# Altium integrated library NSC ADC.IntLib: 208 symbols (part 5 of 7)
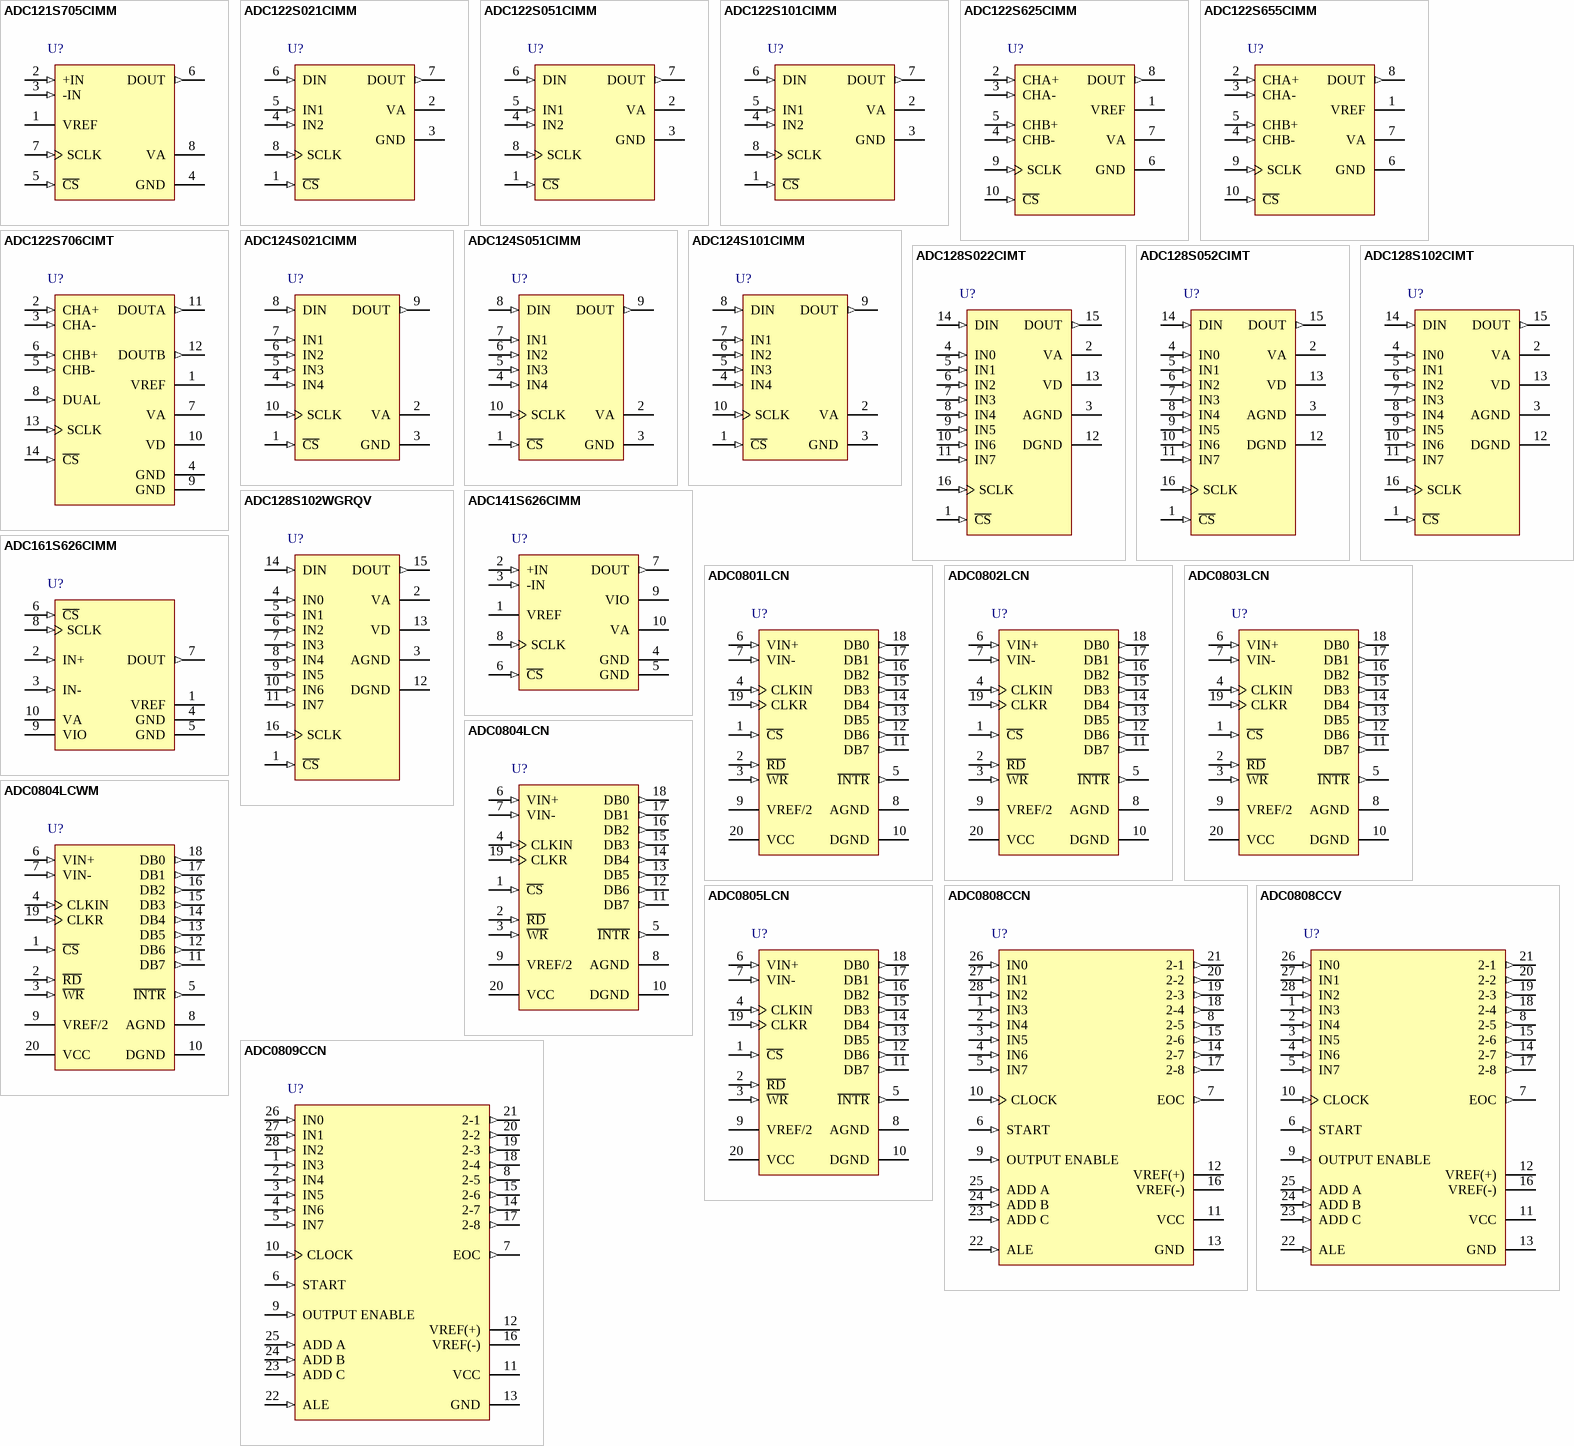
[diagram p21: symbols ADC121S705CIMM to ADC0809CCN]

## ADC122S706CIMT
designator U?
Dual 12-Bit, 500 kSPS to 1 MSPS, Simultaneous Sampling A/D Converter; PartNumber: ADC122S706CIMT; Manufacturer: National Semiconductor; CompType: ADC IC; PackageTopMarking: NSUZXYTT*2S706*CIMT; PowerWise: N; Published: 4-Dec-2008; DatasheetVersion: Nov-2007; PackageVersion: revD, Jun-2003; PackageReference: MTC14; Publisher: Altium Limited; PackageDescription: Molded TSSOP, JEDEC, 5 x 4.4 x 0.9mm Body, 14 Lead, 0.65mm Pitch; RoHS: Y; PinCount: 14; DigiKeyPartNumber: ADC122S706CIMT-ND; Code_JEDEC: MO-153-AB-1; ComponentLink1Description: ADC122S706 Datasheet; ComponentLink1URL: http://www.national.com/ds/AD/ADC122S706.pdf; ComponentLink2Description: ADC122S706 Web Page; ComponentLink2URL: http://www.national.com/pf/AD/ADC122S706.html; ComponentLink3Description: MTC14 Package Page; ComponentLink3URL: http://www.national.com/packaging/folders/mtc14.html
footprint MTC14_N (TSOP, 14-Leads, Body 5x4.4mm, Pitch 0.65mm, IPC Medium Density)
footprint MTC14_L (TSOP, 14-Leads, Body 5x4.4mm, Pitch 0.65mm, IPC High Density)
footprint MTC14_M (TSOP, 14-Leads, Body 5x4.4mm, Pitch 0.65mm, IPC Low Density)
pins: 1 VREF (power), 2 CHA+ (in), 3 CHA- (in), 4 GND (power), 5 CHB- (in), 6 CHB+ (in), 7 VA (power), 8 DUAL (in), 9 GND (power), 10 VD (power), 11 DOUTA (out), 12 DOUTB (out), 13 SCLK (in), 14 ~{CS} (in)

## ADC124S021CIMM
designator U?
4 Channel, 200 kSPS, 12-Bit A/D Converter; PartNumber: ADC124S021CIMM; Manufacturer: National Semiconductor; CompType: ADC IC; PackageTopMarking: ZXTT*X21C; PowerWise: Y; Published: 4-Dec-2008; DatasheetVersion: Mar-2005; PackageVersion: revB, Jul-2003; PackageReference: MUB10A; Publisher: Altium Limited; PackageDescription: Mini-SO, Molded, .118 x .118 x .034in Body, 10 Lead, .0197in Pitch; RoHS: O; PinCount: 10; DigiKeyPartNumber: ADC124S021CIMMCT-ND; Code_JEDEC: MO-187-BA; ComponentLink1Description: ADC124S021 Datasheet; ComponentLink1URL: http://www.national.com/ds/AD/ADC124S021.pdf; ComponentLink2Description: ADC124S021 Web Page; ComponentLink2URL: http://www.national.com/pf/AD/ADC124S021.html; ComponentLink3Description: MUB10A Package Page; ComponentLink3URL: http://www.national.com/packaging/folders/mub10a.html
footprint MUB10A_N (TSSOP, 10-Leads, Body 3x3mm, Pitch 0.5mm, IPC Medium Density)
footprint MUB10A_L (TSSOP, 10-Leads, Body 3x3mm, Pitch 0.5mm, IPC High Density)
footprint MUB10A_M (TSSOP, 10-Leads, Body 3x3mm, Pitch 0.5mm, IPC Low Density)
pins: 1 ~{CS} (in), 2 VA (power), 3 GND (power), 4 IN4 (in), 5 IN3 (in), 6 IN2 (in), 7 IN1 (in), 8 DIN (in), 9 DOUT (out), 10 SCLK (in)

## ADC124S051CIMM
designator U?
4 Channel, 500 kSPS, 12-Bit A/D Converter; PartNumber: ADC124S051CIMM; Manufacturer: National Semiconductor; CompType: ADC IC; PackageTopMarking: ZXTT*X12C; PowerWise: Y; Published: 4-Dec-2008; DatasheetVersion: Mar-2005; PackageVersion: revB, Jul-2003; PackageReference: MUB10A; Publisher: Altium Limited; PackageDescription: Mini-SO, Molded, .118 x .118 x .034in Body, 10 Lead, .0197in Pitch; RoHS: Y; PinCount: 10; DigiKeyPartNumber: ADC124S051CIMMCT-ND; Code_JEDEC: MO-187-BA; ComponentLink1Description: ADC124S051 Datasheet; ComponentLink1URL: http://www.national.com/ds/AD/ADC124S051.pdf; ComponentLink2Description: ADC124S051 Web Page; ComponentLink2URL: http://www.national.com/pf/AD/ADC124S051.html; ComponentLink3Description: MUB10A Package Page; ComponentLink3URL: http://www.national.com/packaging/folders/mub10a.html
footprint MUB10A_N (TSSOP, 10-Leads, Body 3x3mm, Pitch 0.5mm, IPC Medium Density)
footprint MUB10A_L (TSSOP, 10-Leads, Body 3x3mm, Pitch 0.5mm, IPC High Density)
footprint MUB10A_M (TSSOP, 10-Leads, Body 3x3mm, Pitch 0.5mm, IPC Low Density)
pins: 1 ~{CS} (in), 2 VA (power), 3 GND (power), 4 IN4 (in), 5 IN3 (in), 6 IN2 (in), 7 IN1 (in), 8 DIN (in), 9 DOUT (out), 10 SCLK (in)

## ADC124S101CIMM
designator U?
4 Channel, 1 MSPS, 12-Bit A/D Converter; PartNumber: ADC124S101CIMM; Manufacturer: National Semiconductor; CompType: ADC IC; PackageTopMarking: ZXTT*X27C; PowerWise: Y; Published: 4-Dec-2008; DatasheetVersion: Mar-2005; PackageVersion: revB, Jul-2003; PackageReference: MUB10A; Publisher: Altium Limited; PackageDescription: Mini-SO, Molded, .118 x .118 x .034in Body, 10 Lead, .0197in Pitch; RoHS: O; PinCount: 10; DigiKeyPartNumber: ADC124S101CIMMCT-ND; Code_JEDEC: MO-187-BA; ComponentLink1Description: ADC124S101 Datasheet; ComponentLink1URL: http://www.national.com/ds/AD/ADC124S101.pdf; ComponentLink2Description: ADC124S101 Web Page; ComponentLink2URL: http://www.national.com/pf/AD/ADC124S101.html; ComponentLink3Description: MUB10A Package Page; ComponentLink3URL: http://www.national.com/packaging/folders/mub10a.html
footprint MUB10A_N (TSSOP, 10-Leads, Body 3x3mm, Pitch 0.5mm, IPC Medium Density)
footprint MUB10A_L (TSSOP, 10-Leads, Body 3x3mm, Pitch 0.5mm, IPC High Density)
footprint MUB10A_M (TSSOP, 10-Leads, Body 3x3mm, Pitch 0.5mm, IPC Low Density)
pins: 1 ~{CS} (in), 2 VA (power), 3 GND (power), 4 IN4 (in), 5 IN3 (in), 6 IN2 (in), 7 IN1 (in), 8 DIN (in), 9 DOUT (out), 10 SCLK (in)

## ADC128S022CIMT
designator U?
8-Channel, 50 kSPS to 200 kSPS, 12-Bit A/D Converter; PartNumber: ADC128S022CIMT; Manufacturer: National Semiconductor; CompType: ADC IC; PackageTopMarking: NSUZXYTT*128S022*CIMT; PowerWise: Y; Published: 4-Dec-2008; DatasheetVersion: Aug-2005; PackageVersion: revD, Jun-2003; PackageReference: MTC16; Publisher: Altium Limited; PackageDescription: Molded TSSOP, Jedec, 5 x 4.4 x 0.9mm Body, 16 Lead, 0.65mm Pitch; RoHS: Y; PinCount: 16; DigiKeyPartNumber: ADC128S022CIMT-ND; Code_JEDEC: MO-153-AB; ComponentLink1Description: ADC128S022 Datasheet; ComponentLink1URL: http://www.national.com/ds/AD/ADC128S022.pdf; ComponentLink2Description: ADC128S022 Web Page; ComponentLink2URL: http://www.national.com/pf/AD/ADC128S022.html; ComponentLink3Description: MTC16 Package Page; ComponentLink3URL: http://www.national.com/packaging/folders/mtc16.html
footprint MTC16_N (TSOP, 16-Leads, Body 5x4.4mm, Pitch 0.65mm, IPC Medium Density)
footprint MTC16_L (TSOP, 16-Leads, Body 5x4.4mm, Pitch 0.65mm, IPC High Density)
footprint MTC16_M (TSOP, 16-Leads, Body 5x4.4mm, Pitch 0.65mm, IPC Low Density)
pins: 1 ~{CS} (in), 2 VA (power), 3 AGND (power), 4 IN0 (in), 5 IN1 (in), 6 IN2 (in), 7 IN3 (in), 8 IN4 (in), 9 IN5 (in), 10 IN6 (in), 11 IN7 (in), 12 DGND (power), 13 VD (power), 14 DIN (in), 15 DOUT (out), 16 SCLK (in)

## ADC128S052CIMT
designator U?
8-Channel, 200 kSPS to 500 kSPS, 12-Bit A/D Converter; PartNumber: ADC128S052CIMT; Manufacturer: National Semiconductor; CompType: ADC IC; PackageTopMarking: NSUZXYTT*128S052*CIMT; PowerWise: Y; Published: 4-Dec-2008; DatasheetVersion: Aug-2005; PackageVersion: revD, Jun-2003; PackageReference: MTC16; Publisher: Altium Limited; PackageDescription: Molded TSSOP, Jedec, 5 x 4.4 x 0.9mm Body, 16 Lead, 0.65mm Pitch; RoHS: Y; PinCount: 16; DigiKeyPartNumber: ADC128S052CIMT-ND; Code_JEDEC: MO-153-AB; ComponentLink1Description: ADC128S052 Datasheet; ComponentLink1URL: http://www.national.com/ds/AD/ADC128S052.pdf; ComponentLink2Description: ADC128S052 Web Page; ComponentLink2URL: http://www.national.com/pf/AD/ADC128S052.html; ComponentLink3Description: MTC16 Package Page; ComponentLink3URL: http://www.national.com/packaging/folders/mtc16.html
footprint MTC16_N (TSOP, 16-Leads, Body 5x4.4mm, Pitch 0.65mm, IPC Medium Density)
footprint MTC16_L (TSOP, 16-Leads, Body 5x4.4mm, Pitch 0.65mm, IPC High Density)
footprint MTC16_M (TSOP, 16-Leads, Body 5x4.4mm, Pitch 0.65mm, IPC Low Density)
pins: 1 ~{CS} (in), 2 VA (power), 3 AGND (power), 4 IN0 (in), 5 IN1 (in), 6 IN2 (in), 7 IN3 (in), 8 IN4 (in), 9 IN5 (in), 10 IN6 (in), 11 IN7 (in), 12 DGND (power), 13 VD (power), 14 DIN (in), 15 DOUT (out), 16 SCLK (in)

## ADC128S102CIMT
designator U?
8-Channel, 500 kSPS to 1 MSPS, 12-Bit A/D Converter; PartNumber: ADC128S102CIMT; Manufacturer: National Semiconductor; CompType: ADC IC; PackageTopMarking: NSUZXYTT*128S102*CIMT; PowerWise: Y; Published: 4-Dec-2008; DatasheetVersion: Aug-2005; PackageVersion: revD, Jun-2003; PackageReference: MTC16; Publisher: Altium Limited; PackageDescription: Molded TSSOP, Jedec, 5 x 4.4 x 0.9mm Body, 16 Lead, 0.65mm Pitch; RoHS: O; PinCount: 16; DigiKeyPartNumber: ADC128S102CIMT-ND; Code_JEDEC: MO-153-AB; ComponentLink1Description: ADC128S102 Datasheet; ComponentLink1URL: http://www.national.com/ds/AD/ADC128S102.pdf; ComponentLink2Description: ADC128S102 Web Page; ComponentLink2URL: http://www.national.com/pf/AD/ADC128S102.html; ComponentLink3Description: MTC16 Package Page; ComponentLink3URL: http://www.national.com/packaging/folders/mtc16.html
footprint MTC16_N (TSOP, 16-Leads, Body 5x4.4mm, Pitch 0.65mm, IPC Medium Density)
footprint MTC16_L (TSOP, 16-Leads, Body 5x4.4mm, Pitch 0.65mm, IPC High Density)
footprint MTC16_M (TSOP, 16-Leads, Body 5x4.4mm, Pitch 0.65mm, IPC Low Density)
pins: 1 ~{CS} (in), 2 VA (power), 3 AGND (power), 4 IN0 (in), 5 IN1 (in), 6 IN2 (in), 7 IN3 (in), 8 IN4 (in), 9 IN5 (in), 10 IN6 (in), 11 IN7 (in), 12 DGND (power), 13 VD (power), 14 DIN (in), 15 DOUT (out), 16 SCLK (in)

## ADC128S102WGRQV
designator U?
8-Channel, 500 ksps to 1 Msps, 12-Bit A/D Converter; PartNumber: ADC128S102WGRQV; Manufacturer: National Semiconductor; CompType: ADC IC; PackageTopMarking: NSZSSXXYYA*ADC128S102*WGRQV Q*5962R07227*01VZA; PowerWise: Y; MilaeroCode: EXX; Published: 9-Oct-2009; DatasheetVersion: Jul-2009; PackageVersion: revE, Jul-2007; PackageReference: WG16A; Publisher: Altium Limited; PackageDescription: Cerpack, .390 x .250 x .070in, 16 Lead, .050in Pitch, Gull Wing; RoHS: N; PinCount: 16; ComponentLink1Description: ADC128S102 Datasheet; ComponentLink1URL: http://www.national.com/ds/AD/ADC128S102QML.pdf; ComponentLink2Description: ADC128S102QML Web Page; ComponentLink2URL: http://www.national.com/pf/DC/ADC128S102QML.html; ComponentLink3Description: WG16A Package Page; ComponentLink3URL: http://www.national.com/packaging/folders/wg16a.html
footprint WG16A_N (CERPACK, 16-Leads, Body 9.9x6.5mm, Pitch 1.27mm, IPC Medium Density)
footprint WG16A_L (CERPACK, 16-Leads, Body 9.9x6.5mm, Pitch 1.27mm, IPC High Density)
footprint WG16A_M (CERPACK, 16-Leads, Body 9.9x6.5mm, Pitch 1.27mm, IPC Low Density)
pins: 1 ~{CS} (in), 2 VA (power), 3 AGND (power), 4 IN0 (in), 5 IN1 (in), 6 IN2 (in), 7 IN3 (in), 8 IN4 (in), 9 IN5 (in), 10 IN6 (in), 11 IN7 (in), 12 DGND (power), 13 VD (power), 14 DIN (in), 15 DOUT (out), 16 SCLK (in)

## ADC141S626CIMM
designator U?
14-Bit, 50 kSPS to 250 kSPS, Differential Input, Micro Power A/D Converter; PartNumber: ADC141S626CIMM; Manufacturer: National Semiconductor; CompType: ADC IC; PackageTopMarking: ZXTT*X94C; PowerWise: Y; Published: 4-Dec-2008; DatasheetVersion: Dec-2007; PackageVersion: revB, Jul-2003; PackageReference: MUB10A; Publisher: Altium Limited; PackageDescription: Mini-SO, Molded, .118 x .118 x .034in Body, 10 Lead, .0197in Pitch; RoHS: Y; PinCount: 10; DigiKeyPartNumber: ADC141S626CIMMCT-ND; Code_JEDEC: MO-187-BA; ComponentLink1Description: ADC141S626 Datasheet; ComponentLink1URL: http://www.national.com/ds/AD/ADC141S626.pdf; ComponentLink2Description: ADC141S626 Web Page; ComponentLink2URL: http://www.national.com/pf/AD/ADC141S626.html; ComponentLink3Description: MUB10A Package Page; ComponentLink3URL: http://www.national.com/packaging/folders/mub10a.html
footprint MUB10A_N (TSSOP, 10-Leads, Body 3x3mm, Pitch 0.5mm, IPC Medium Density)
footprint MUB10A_L (TSSOP, 10-Leads, Body 3x3mm, Pitch 0.5mm, IPC High Density)
footprint MUB10A_M (TSSOP, 10-Leads, Body 3x3mm, Pitch 0.5mm, IPC Low Density)
pins: 1 VREF (power), 2 +IN (in), 3 -IN (in), 4 GND (power), 5 GND (power), 6 ~{CS} (in), 7 DOUT (out), 8 SCLK (in), 9 VIO (power), 10 VA (power)

## ADC161S626CIMM
designator U?
16-Bit, 50 to 250 kSPS, Differential Input, MicroPower ADC; PartNumber: ADC161S626CIMM; Manufacturer: National Semiconductor; CompType: ADC IC; PackageTopMarking: ZXTT*X98C; PowerWise: Y; Published: 4-Dec-2008; DatasheetVersion: Sep-2008; PackageVersion: revB, Jul-2003; PackageReference: MUB10A; Publisher: Altium Limited; PackageDescription: Mini-SO, Molded, .118 x .118 x .034in Body, 10 Lead, .0197in Pitch; RoHS: Y; PinCount: 10; DigiKeyPartNumber: ADC161S626CIMMCT-ND; Code_JEDEC: MO-187-BA; ComponentLink1Description: ADC161S626 Datasheet; ComponentLink1URL: http://www.national.com/ds/AD/ADC161S626.pdf; ComponentLink2Description: ADC161S626 Web Page; ComponentLink2URL: http://www.national.com/pf/AD/ADC161S626.html; ComponentLink3Description: MUB10A Package Drawing; ComponentLink3URL: http://www.national.com/packaging/folders/mub10a.html
footprint MUB10A_N (TSSOP, 10-Leads, Body 3x3mm, Pitch 0.5mm, IPC Medium Density)
footprint MUB10A_L (TSSOP, 10-Leads, Body 3x3mm, Pitch 0.5mm, IPC High Density)
footprint MUB10A_M (TSSOP, 10-Leads, Body 3x3mm, Pitch 0.5mm, IPC Low Density)
pins: 1 VREF (power), 2 IN+ (in), 3 IN- (in), 4 GND (power), 5 GND (power), 6 ~{CS} (in), 7 DOUT (out), 8 SCLK (in), 9 VIO, 10 VA

## ADC0801LCN
designator U?
8-Bit uP Compatible A/D Converters; PartNumber: ADC0801LCN; Manufacturer: National Semiconductor; CompType: ADC IC; PackageTopMarking: NSUZXYYTTE#*ADC0801LCN; PowerWise: N; Published: 4-Dec-2008; DatasheetVersion: Sep-1992; PackageVersion: revG, Nov-1984; PackageReference: N20A; Publisher: Altium Limited; PackageDescription: Molded Dip (N) 20 Lead; RoHS: Y; PinCount: 20; DigiKeyPartNumber: ADC0801LCN-ND; Code_JEDEC: MS-001-AD; ComponentLink1Description: ADC0801 Datasheet; ComponentLink1URL: http://www.national.com/ds/AD/ADC0801.pdf; ComponentLink2Description: ADC0801 Web Page; ComponentLink2URL: http://www.national.com/pf/AD/ADC0801.html; ComponentLink3Description: N20A Package Page; ComponentLink3URL: http://www.national.com/packaging/folders/n20a.html
footprint N20A (DIP, 20-Leads, Row Spacing 7.62mm, Pitch 2.54mm, Body 26.07x6.6mm)
pins: 1 ~{CS} (in), 2 ~{RD} (in), 3 ~{WR} (in), 4 CLKIN (in), 5 ~{INTR} (out), 6 VIN+ (in), 7 VIN- (in), 8 AGND (power), 9 VREF/2 (power), 10 DGND (power), 11 DB7 (out), 12 DB6 (out), 13 DB5 (out), 14 DB4 (out), 15 DB3 (out), 16 DB2 (out), 17 DB1 (out), 18 DB0 (out), 19 CLKR (in), 20 VCC (power)

## ADC0802LCN
designator U?
8-Bit uP Compatible A/D Converters; PartNumber: ADC0802LCN; Manufacturer: National Semiconductor; CompType: ADC IC; PackageTopMarking: NSUZXYYTTE#*ADC0802LCN; PowerWise: N; Published: 4-Dec-2008; DatasheetVersion: Sep-1992; PackageVersion: revG, Nov-1984; PackageReference: N20A; Publisher: Altium Limited; PackageDescription: Molded Dip (N) 20 Lead; RoHS: O; PinCount: 20; DigiKeyPartNumber: ADC0802LCN-ND; Code_JEDEC: MS-001-AD; ComponentLink1Description: ADC0802 Datasheet; ComponentLink1URL: http://www.national.com/ds/AD/ADC0802.pdf; ComponentLink2Description: ADC0802 Web Page; ComponentLink2URL: http://www.national.com/pf/AD/ADC0802.html; ComponentLink3Description: N20A Package Page; ComponentLink3URL: http://www.national.com/packaging/folders/n20a.html
footprint N20A (DIP, 20-Leads, Row Spacing 7.62mm, Pitch 2.54mm, Body 26.07x6.6mm)
pins: 1 ~{CS} (in), 2 ~{RD} (in), 3 ~{WR} (in), 4 CLKIN (in), 5 ~{INTR} (out), 6 VIN+ (in), 7 VIN- (in), 8 AGND (power), 9 VREF/2 (power), 10 DGND (power), 11 DB7 (out), 12 DB6 (out), 13 DB5 (out), 14 DB4 (out), 15 DB3 (out), 16 DB2 (out), 17 DB1 (out), 18 DB0 (out), 19 CLKR (in), 20 VCC (power)

## ADC0803LCN
designator U?
8-Bit uP Compatible A/D Converters; PartNumber: ADC0803LCN; Manufacturer: National Semiconductor; CompType: ADC IC; PackageTopMarking: NSUZXYYTTE#*ADC0803LCN; PowerWise: N; Published: 4-Dec-2008; DatasheetVersion: Sep-1992; PackageVersion: revG, Nov-1984; PackageReference: N20A; Publisher: Altium Limited; PackageDescription: Molded Dip (N) 20 Lead; RoHS: O; PinCount: 20; DigiKeyPartNumber: ADC0803LCN-ND; Code_JEDEC: MS-001-AD; ComponentLink1Description: ADC0803 Datasheet; ComponentLink1URL: http://www.national.com/ds/AD/ADC0803.pdf; ComponentLink2Description: ADC0803 Web Page; ComponentLink2URL: http://www.national.com/pf/AD/ADC0803.html; ComponentLink3Description: N20A Package Page; ComponentLink3URL: http://www.national.com/packaging/folders/n20a.html
footprint N20A (DIP, 20-Leads, Row Spacing 7.62mm, Pitch 2.54mm, Body 26.07x6.6mm)
pins: 1 ~{CS} (in), 2 ~{RD} (in), 3 ~{WR} (in), 4 CLKIN (in), 5 ~{INTR} (out), 6 VIN+ (in), 7 VIN- (in), 8 AGND (power), 9 VREF/2 (power), 10 DGND (power), 11 DB7 (out), 12 DB6 (out), 13 DB5 (out), 14 DB4 (out), 15 DB3 (out), 16 DB2 (out), 17 DB1 (out), 18 DB0 (out), 19 CLKR (in), 20 VCC (power)

## ADC0804LCN
designator U?
8-Bit uP Compatible A/D Converters; PartNumber: ADC0804LCN; Manufacturer: National Semiconductor; CompType: ADC IC; PackageTopMarking: NSUZXYYTTE#*ADC0804LCN; PowerWise: N; Published: 4-Dec-2008; DatasheetVersion: Sep-1992; PackageVersion: revG, Nov-1984; PackageReference: N20A; Publisher: Altium Limited; PackageDescription: Molded Dip (N) 20 Lead; RoHS: O; PinCount: 20; DigiKeyPartNumber: ADC0804LCN-ND; Code_JEDEC: MS-001-AD; ComponentLink1Description: ADC0804 Datasheet; ComponentLink1URL: http://www.national.com/ds/AD/ADC0804.pdf; ComponentLink2Description: ADC0804 Web Page; ComponentLink2URL: http://www.national.com/pf/AD/ADC0804.html; ComponentLink3Description: N20A Package Page; ComponentLink3URL: http://www.national.com/packaging/folders/n20a.html
footprint N20A (DIP, 20-Leads, Row Spacing 7.62mm, Pitch 2.54mm, Body 26.07x6.6mm)
pins: 1 ~{CS} (in), 2 ~{RD} (in), 3 ~{WR} (in), 4 CLKIN (in), 5 ~{INTR} (out), 6 VIN+ (in), 7 VIN- (in), 8 AGND (power), 9 VREF/2 (power), 10 DGND (power), 11 DB7 (out), 12 DB6 (out), 13 DB5 (out), 14 DB4 (out), 15 DB3 (out), 16 DB2 (out), 17 DB1 (out), 18 DB0 (out), 19 CLKR (in), 20 VCC (power)

## ADC0804LCWM
designator U?
8-Bit uP Compatible A/D Converters; PartNumber: ADC0804LCWM; Manufacturer: National Semiconductor; CompType: ADC IC; PackageTopMarking: NSUZXYTT*ADC0804*LCWM; PowerWise: N; Published: 4-Dec-2008; DatasheetVersion: Sep-1992; PackageVersion: revG, Jan-1996; PackageReference: M20B; Publisher: Altium Limited; PackageDescription: Molded Package, S0, .300in Wide, 20 Lead; RoHS: Y; PinCount: 20; DigiKeyPartNumber: ADC0804LCWM-ND; Code_JEDEC: MS-013-AC; Code_IPC: SOIC127P1030-20; ComponentLink1Description: ADC0804 Datasheet; ComponentLink1URL: http://www.national.com/ds/AD/ADC0804.pdf; ComponentLink2Description: ADC0804 Web Page; ComponentLink2URL: http://www.national.com/pf/AD/ADC0804.html; ComponentLink3Description: M20B Package Page; ComponentLink3URL: http://www.national.com/packaging/folders/m20b.html
footprint M20B_N (SOIC, 20-Leads, Body 12.8x7.5mm, Pitch 1.27mm, IPC Medium Density)
footprint M20B_L (SOIC, 20-Leads, Body 12.8x7.5mm, Pitch 1.27mm, IPC High Density)
footprint M20B_M (SOIC, 20-Leads, Body 12.8x7.5mm, Pitch 1.27mm, IPC Low Density)
pins: 1 ~{CS} (in), 2 ~{RD} (in), 3 ~{WR} (in), 4 CLKIN (in), 5 ~{INTR} (out), 6 VIN+ (in), 7 VIN- (in), 8 AGND (power), 9 VREF/2 (power), 10 DGND (power), 11 DB7 (out), 12 DB6 (out), 13 DB5 (out), 14 DB4 (out), 15 DB3 (out), 16 DB2 (out), 17 DB1 (out), 18 DB0 (out), 19 CLKR (in), 20 VCC (power)

## ADC0805LCN
designator U?
8-Bit uP Compatible A/D Converters; PartNumber: ADC0805LCN; Manufacturer: National Semiconductor; CompType: ADC IC; PackageTopMarking: NSUZXYYTTE#*ADC0805LCN; Published: 4-Dec-2008; DatasheetVersion: Sep-1992; PackageVersion: revG, Nov-1984; PackageReference: N20A; Publisher: Altium Limited; PackageDescription: Molded Dip (N) 20 Lead; RoHS: Y; PinCount: 20; DigiKeyPartNumber: ADC0805LCN-ND; Code_JEDEC: MS-001-AD; ComponentLink1Description: ADC0805 Datasheet; ComponentLink1URL: http://www.national.com/ds/AD/ADC0805.pdf; ComponentLink2Description: ADC0805 Web Page; ComponentLink2URL: http://www.national.com/pf/AD/ADC0805.html; ComponentLink3Description: N20A Package Page; ComponentLink3URL: http://www.national.com/packaging/folders/n20a.html
footprint N20A (DIP, 20-Leads, Row Spacing 7.62mm, Pitch 2.54mm, Body 26.07x6.6mm)
pins: 1 ~{CS} (in), 2 ~{RD} (in), 3 ~{WR} (in), 4 CLKIN (in), 5 ~{INTR} (out), 6 VIN+ (in), 7 VIN- (in), 8 AGND (power), 9 VREF/2 (power), 10 DGND (power), 11 DB7 (out), 12 DB6 (out), 13 DB5 (out), 14 DB4 (out), 15 DB3 (out), 16 DB2 (out), 17 DB1 (out), 18 DB0 (out), 19 CLKR (in), 20 VCC (power)

## ADC0808CCN
designator U?
8-bit Microprocessor Compatible A/D Converters With 8-Channel Multiplexer; PartNumber: ADC0808CCN; Manufacturer: National Semiconductor; CompType: ADC IC; PackageTopMarking: NSUZXYYTTE#*ADC0808CCN; PowerWise: N; Published: 4-Dec-2008; DatasheetVersion: Sep-1992; PackageVersion: revB, Aug-1993; PackageReference: NA28E; Publisher: Altium Limited; PackageDescription: Molded Dip, 28 Lead, .600 Centers, Substractor Package; RoHS: O; PinCount: 28; DigiKeyPartNumber: ADC0808CCN-ND; ComponentLink1Description: ADC0808 Datasheet; ComponentLink1URL: http://www.national.com/ds/AD/ADC0808.pdf; ComponentLink2Description: ADC0808 Web Page; ComponentLink2URL: http://www.national.com/pf/AD/ADC0808.html; ComponentLink3Description: NA28E Package Page; ComponentLink3URL: http://www.national.com/packaging/folders/na28e.html
footprint NA28E (DIP, 28-Leads, Row Spacing 15.24mm, Pitch 2.54mm, Body 36.83x13.72mm)
pins: 1 IN3 (in), 2 IN4 (in), 3 IN5 (in), 4 IN6 (in), 5 IN7 (in), 6 START (in), 7 EOC (out), 8 2-5 (out), 9 OUTPUT ENABLE (in), 10 CLOCK (in), 11 VCC (power), 12 VREF(+) (power), 13 GND (power), 14 2-7 (out), 15 2-6 (out), 16 VREF(-) (power), 17 2-8 (out), 18 2-4 (out), 19 2-3 (out), 20 2-2 (out), 21 2-1 (out), 22 ALE (in), 23 ADD C (in), 24 ADD B (in), 25 ADD A (in), 26 IN0 (in), 27 IN1 (in), 28 IN2 (in)

## ADC0808CCV
designator U?
8-bit Microprocessor Compatible A/D Converters With 8-Channel Multiplexer; PartNumber: ADC0808CCV; Manufacturer: National Semiconductor; CompType: ADC IC; PackageTopMarking: NSUZXYYTT*ADC0808*CCV; PowerWise: N; Published: 4-Dec-2008; DatasheetVersion: Sep-1992; PackageVersion: revK, Dec-1993; PackageReference: V28A; Publisher: Altium Limited; PackageDescription: Plastic Chip Carrier, Sq., .050in Pitch, 28 Lead; RoHS: O; PinCount: 28; DigiKeyPartNumber: ADC0808CCV-ND; Code_IPC: PLCC-28; ComponentLink1Description: ADC0808 Datasheet; ComponentLink1URL: http://www.national.com/ds/AD/ADC0808.pdf; ComponentLink2Description: ADC0808 Web Page; ComponentLink2URL: http://www.national.com/pf/AD/ADC0808.html; ComponentLink3Description: V28A Package Page; ComponentLink3URL: http://www.national.com/packaging/folders/v28a.html
footprint V28A_N (Leaded Chip Carrier, 28-Leads, Body 11.5x11.5mm, Pitch 1.27mm, IPC Medium Density)
footprint V28A_L (Leaded Chip Carrier, 28-Leads, Body 11.5x11.5mm, Pitch 1.27mm, IPC High Density)
footprint V28A_M (Leaded Chip Carrier, 28-Leads, Body 11.5x11.5mm, Pitch 1.27mm, IPC Low Density)
pins: 1 IN3 (in), 2 IN4 (in), 3 IN5 (in), 4 IN6 (in), 5 IN7 (in), 6 START (in), 7 EOC (out), 8 2-5 (out), 9 OUTPUT ENABLE (in), 10 CLOCK (in), 11 VCC (power), 12 VREF(+) (power), 13 GND (power), 14 2-7 (out), 15 2-6 (out), 16 VREF(-) (power), 17 2-8 (out), 18 2-4 (out), 19 2-3 (out), 20 2-2 (out), 21 2-1 (out), 22 ALE (in), 23 ADD C (in), 24 ADD B (in), 25 ADD A (in), 26 IN0 (in), 27 IN1 (in), 28 IN2 (in)

## ADC0809CCN
designator U?
8-bit Microprocessor Compatible A/D Converters With 8-Channel Multiplexer; PartNumber: ADC0809CCN; Manufacturer: National Semiconductor; CompType: ADC IC; PackageTopMarking: NSUZXYYTTE#*ADC0809CCN; PowerWise: N; Published: 4-Dec-2008; DatasheetVersion: Sep-1992; PackageVersion: revB, Aug-1993; PackageReference: NA28E; Publisher: Altium Limited; PackageDescription: Molded Dip, 28 Lead, .600 Centers, Substractor Package; RoHS: O; PinCount: 28; DigiKeyPartNumber: ADC0809CCN-ND; ComponentLink1Description: ADC0809 Datasheet; ComponentLink1URL: http://www.national.com/ds/AD/ADC0809.pdf; ComponentLink2Description: ADC0809 Web Page; ComponentLink2URL: http://www.national.com/pf/AD/ADC0809.html; ComponentLink3Description: NA28E Package Page; ComponentLink3URL: http://www.national.com/packaging/folders/na28e.html
footprint NA28E (DIP, 28-Leads, Row Spacing 15.24mm, Pitch 2.54mm, Body 36.83x13.72mm)
pins: 1 IN3 (in), 2 IN4 (in), 3 IN5 (in), 4 IN6 (in), 5 IN7 (in), 6 START (in), 7 EOC (out), 8 2-5 (out), 9 OUTPUT ENABLE (in), 10 CLOCK (in), 11 VCC (power), 12 VREF(+) (power), 13 GND (power), 14 2-7 (out), 15 2-6 (out), 16 VREF(-) (power), 17 2-8 (out), 18 2-4 (out), 19 2-3 (out), 20 2-2 (out), 21 2-1 (out), 22 ALE (in), 23 ADD C (in), 24 ADD B (in), 25 ADD A (in), 26 IN0 (in), 27 IN1 (in), 28 IN2 (in)

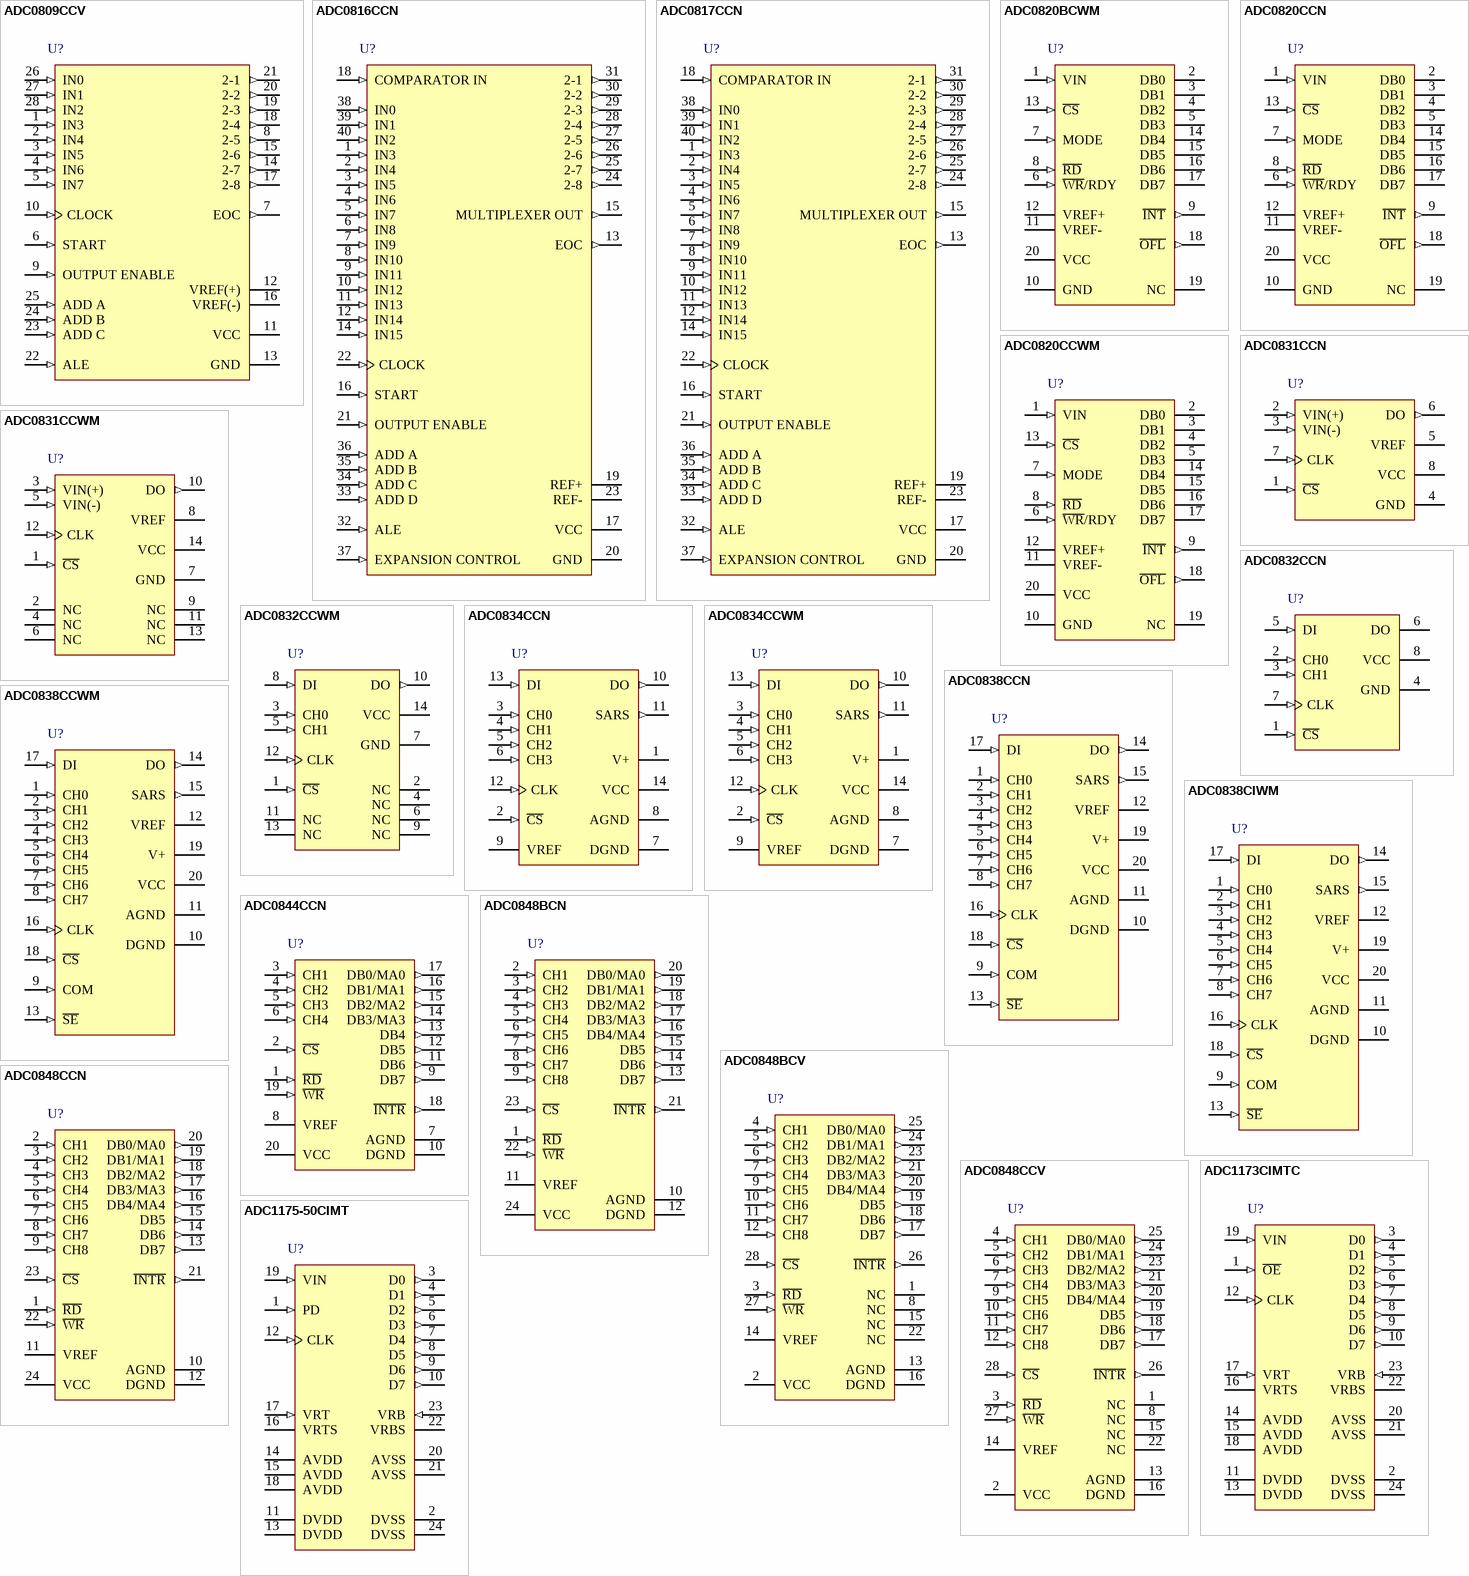
[diagram p11: symbols ADC0809CCV to ADC1175-50CIMT]

## ADC0809CCV
designator U?
8-bit Microprocessor Compatible A/D Converters With 8-Channel Multiplexer; PartNumber: ADC0809CCV; Manufacturer: National Semiconductor; CompType: ADC IC; PackageTopMarking: NSUZXYYTT*ADC0809*CCV; PowerWise: N; Published: 4-Dec-2008; DatasheetVersion: Sep-1992; PackageVersion: revK, Dec-1993; PackageReference: V28A; Publisher: Altium Limited; PackageDescription: Plastic Chip Carrier, Sq., .050in Pitch, 28 Lead; RoHS: O; PinCount: 28; DigiKeyPartNumber: ADC0809CCV-ND; Code_IPC: PLCC-28; ComponentLink1Description: ADC0809 Datasheet; ComponentLink1URL: http://www.national.com/ds/AD/ADC0809.pdf; ComponentLink2Description: ADC0809 Web Page; ComponentLink2URL: http://www.national.com/pf/AD/ADC0809.html; ComponentLink3Description: V28A Package Page; ComponentLink3URL: http://www.national.com/packaging/folders/v28a.html
footprint V28A_N (Leaded Chip Carrier, 28-Leads, Body 11.5x11.5mm, Pitch 1.27mm, IPC Medium Density)
footprint V28A_L (Leaded Chip Carrier, 28-Leads, Body 11.5x11.5mm, Pitch 1.27mm, IPC High Density)
footprint V28A_M (Leaded Chip Carrier, 28-Leads, Body 11.5x11.5mm, Pitch 1.27mm, IPC Low Density)
pins: 1 IN3 (in), 2 IN4 (in), 3 IN5 (in), 4 IN6 (in), 5 IN7 (in), 6 START (in), 7 EOC (out), 8 2-5 (out), 9 OUTPUT ENABLE (in), 10 CLOCK (in), 11 VCC (power), 12 VREF(+) (power), 13 GND (power), 14 2-7 (out), 15 2-6 (out), 16 VREF(-) (power), 17 2-8 (out), 18 2-4 (out), 19 2-3 (out), 20 2-2 (out), 21 2-1 (out), 22 ALE (in), 23 ADD C (in), 24 ADD B (in), 25 ADD A (in), 26 IN0 (in), 27 IN1 (in), 28 IN2 (in)

## ADC0816CCN
designator U?
8-Bit Microprocessor Compatible A/D Converter with 16-Channel Multiplexer; PartNumber: ADC0816CCN; Manufacturer: National Semiconductor; CompType: ADC IC; PackageTopMarking: NSUZXYYTTE#*ADC0816CCN; PowerWise: N; Published: 4-Dec-2008; DatasheetVersion: Jun-1994; PackageVersion: revE, Nov-1983; PackageReference: N40A; Publisher: Altium Limited; PackageDescription: 40 Lead Molded Dip (N); RoHS: O; PinCount: 40; DigiKeyPartNumber: ADC0816CCN-ND; ComponentLink1Description: ADC0816 Datasheet; ComponentLink1URL: http://www.national.com/ds/AD/ADC0816.pdf; ComponentLink2Description: ADC0816 Web Page; ComponentLink2URL: http://www.national.com/pf/AD/ADC0816.html; ComponentLink3Description: N40A Package Page; ComponentLink3URL: http://www.national.com/packaging/folders/n40a.html
footprint N40A (DIP, 40-Leads, Row Spacing 15.24mm, Pitch 2.54mm, Body 52.24x13.97mm)
pins: 1 IN3 (in), 2 IN4 (in), 3 IN5 (in), 4 IN6 (in), 5 IN7 (in), 6 IN8 (in), 7 IN9 (in), 8 IN10 (in), 9 IN11 (in), 10 IN12 (in), 11 IN13 (in), 12 IN14 (in), 13 EOC (out), 14 IN15 (in), 15 MULTIPLEXER OUT (out), 16 START (in), 17 VCC (power), 18 COMPARATOR IN (in), 19 REF+ (power), 20 GND (power), 21 OUTPUT ENABLE (in), 22 CLOCK (in), 23 REF- (power), 24 2-8 (out), 25 2-7 (out), 26 2-6 (out), 27 2-5 (out), 28 2-4 (out), 29 2-3 (out), 30 2-2 (out), 31 2-1 (out), 32 ALE (in), 33 ADD D (in), 34 ADD C (in), 35 ADD B (in), 36 ADD A (in), 37 EXPANSION CONTROL (in), 38 IN0 (in), 39 IN1 (in), 40 IN2 (in)

## ADC0817CCN
designator U?
8-Bit Microprocessor Compatible A/D Converter with 16-Channel Multiplexer; PartNumber: ADC0817CCN; Manufacturer: National Semiconductor; CompType: ADC IC; PackageTopMarking: NSUZXYYTTE#*ADC0817CCN; PowerWise: N; Published: 4-Dec-2008; DatasheetVersion: Jun-1994; PackageVersion: revE, Nov-1983; PackageReference: N40A; Publisher: Altium Limited; PackageDescription: 40 Lead Molded Dip (N); RoHS: Y; PinCount: 40; DigiKeyPartNumber: ADC0817CCN-ND; ComponentLink1Description: ADC0817 Datasheet; ComponentLink1URL: http://www.national.com/ds/AD/ADC0817.pdf; ComponentLink2Description: ADC0817 Web Page; ComponentLink2URL: http://www.national.com/pf/AD/ADC0817.html; ComponentLink3Description: N40A Package Page; ComponentLink3URL: http://www.national.com/packaging/folders/n40a.html
footprint N40A (DIP, 40-Leads, Row Spacing 15.24mm, Pitch 2.54mm, Body 52.24x13.97mm)
pins: 1 IN3 (in), 2 IN4 (in), 3 IN5 (in), 4 IN6 (in), 5 IN7 (in), 6 IN8 (in), 7 IN9 (in), 8 IN10 (in), 9 IN11 (in), 10 IN12 (in), 11 IN13 (in), 12 IN14 (in), 13 EOC (out), 14 IN15 (in), 15 MULTIPLEXER OUT (out), 16 START (in), 17 VCC (power), 18 COMPARATOR IN (in), 19 REF+ (power), 20 GND (power), 21 OUTPUT ENABLE (in), 22 CLOCK (in), 23 REF- (power), 24 2-8 (out), 25 2-7 (out), 26 2-6 (out), 27 2-5 (out), 28 2-4 (out), 29 2-3 (out), 30 2-2 (out), 31 2-1 (out), 32 ALE (in), 33 ADD D (in), 34 ADD C (in), 35 ADD B (in), 36 ADD A (in), 37 EXPANSION CONTROL (in), 38 IN0 (in), 39 IN1 (in), 40 IN2 (in)

## ADC0820BCWM
designator U?
8-Bit High Speed uP Compatible A/D Converter with Track/Hold Function; PartNumber: ADC0820BCWM; Manufacturer: National Semiconductor; CompType: ADC IC; PackageTopMarking: NSUZXYTT*ADC0820*BCWM; Published: 4-Dec-2008; DatasheetVersion: May-1998; PackageVersion: revG, Jan-1996; PackageReference: M20B; Publisher: Altium Limited; PackageDescription: Molded Package, S0, .300in Wide, 20 Lead; RoHS: O; PinCount: 20; DigiKeyPartNumber: ADC0820BCWM-ND; Code_JEDEC: MS-013-AC; Code_IPC: SOIC127P1030-20; ComponentLink1Description: ADC0820 Datasheet; ComponentLink1URL: http://www.national.com/ds/AD/ADC0820.pdf; ComponentLink2Description: ADC0820 Web Page; ComponentLink2URL: http://www.national.com/pf/AD/ADC0820.html; ComponentLink3Description: M20B Package Page; ComponentLink3URL: http://www.national.com/packaging/folders/m20b.html
footprint M20B_N (SOIC, 20-Leads, Body 12.8x7.5mm, Pitch 1.27mm, IPC Medium Density)
footprint M20B_L (SOIC, 20-Leads, Body 12.8x7.5mm, Pitch 1.27mm, IPC High Density)
footprint M20B_M (SOIC, 20-Leads, Body 12.8x7.5mm, Pitch 1.27mm, IPC Low Density)
pins: 1 VIN (in), 2 DB0 (hiz), 3 DB1 (hiz), 4 DB2 (hiz), 5 DB3 (hiz), 6 ~{WR}/RDY (in), 7 MODE (in), 8 ~{RD} (in), 9 ~{INT} (out), 10 GND (power), 11 VREF- (power), 12 VREF+ (power), 13 ~{CS} (in), 14 DB4 (hiz), 15 DB5 (hiz), 16 DB6 (hiz), 17 DB7 (hiz), 18 ~{OFL} (out), 19 NC, 20 VCC (power)

## ADC0820CCN
designator U?
8-Bit High Speed uP Compatible A/D Converter with Track/Hold Function; PartNumber: ADC0820CCN; Manufacturer: National Semiconductor; CompType: ADC IC; PackageTopMarking: NSUZXYYTTE#*ADC0820CCN; PowerWise: N; Published: 4-Dec-2008; DatasheetVersion: May-1998; PackageVersion: revG, Nov-1984; PackageReference: N20A; Publisher: Altium Limited; PackageDescription: Molded Dip (N) 20 Lead; RoHS: O; PinCount: 20; DigiKeyPartNumber: ADC0820CCN-ND; Code_JEDEC: MS-001-AD; ComponentLink1Description: ADC0820 Datasheet; ComponentLink1URL: http://www.national.com/ds/AD/ADC0820.pdf; ComponentLink2Description: ADC0820 Web Page; ComponentLink2URL: http://www.national.com/pf/AD/ADC0820.html; ComponentLink3Description: N20A Package Page; ComponentLink3URL: http://www.national.com/packaging/folders/n20a.html
footprint N20A (DIP, 20-Leads, Row Spacing 7.62mm, Pitch 2.54mm, Body 26.07x6.6mm)
pins: 1 VIN (in), 2 DB0 (hiz), 3 DB1 (hiz), 4 DB2 (hiz), 5 DB3 (hiz), 6 ~{WR}/RDY (in), 7 MODE (in), 8 ~{RD} (in), 9 ~{INT} (out), 10 GND (power), 11 VREF- (power), 12 VREF+ (power), 13 ~{CS} (in), 14 DB4 (hiz), 15 DB5 (hiz), 16 DB6 (hiz), 17 DB7 (hiz), 18 ~{OFL} (out), 19 NC, 20 VCC (power)

## ADC0820CCWM
designator U?
8-Bit High Speed uP Compatible A/D Converter with Track/Hold Function; PartNumber: ADC0820CCWM; Manufacturer: National Semiconductor; CompType: ADC IC; PackageTopMarking: NSUZXYTT*ADC0820*CCWM; PowerWise: N; Published: 4-Dec-2008; DatasheetVersion: May-1998; PackageVersion: revG, Jan-1996; PackageReference: M20B; Publisher: Altium Limited; PackageDescription: Molded Package, S0, .300in Wide, 20 Lead; RoHS: O; PinCount: 20; DigiKeyPartNumber: ADC0820CCWM-ND; Code_JEDEC: MS-013-AC; Code_IPC: SOIC127P1030-20; ComponentLink1Description: ADC0820 Datasheet; ComponentLink1URL: http://www.national.com/ds/AD/ADC0820.pdf; ComponentLink2Description: ADC0820 Web Page; ComponentLink2URL: http://www.national.com/pf/AD/ADC0820.html; ComponentLink3Description: M20B Package Page; ComponentLink3URL: http://www.national.com/packaging/folders/m20b.html
footprint M20B_N (SOIC, 20-Leads, Body 12.8x7.5mm, Pitch 1.27mm, IPC Medium Density)
footprint M20B_L (SOIC, 20-Leads, Body 12.8x7.5mm, Pitch 1.27mm, IPC High Density)
footprint M20B_M (SOIC, 20-Leads, Body 12.8x7.5mm, Pitch 1.27mm, IPC Low Density)
pins: 1 VIN (in), 2 DB0 (hiz), 3 DB1 (hiz), 4 DB2 (hiz), 5 DB3 (hiz), 6 ~{WR}/RDY (in), 7 MODE (in), 8 ~{RD} (in), 9 ~{INT} (out), 10 GND (power), 11 VREF- (power), 12 VREF+ (power), 13 ~{CS} (in), 14 DB4 (hiz), 15 DB5 (hiz), 16 DB6 (hiz), 17 DB7 (hiz), 18 ~{OFL} (out), 19 NC, 20 VCC (power)

## ADC0831CCN
designator U?
8-Bit Serial I/O A/D Converter with Multiplexer Option; PartNumber: ADC0831CCN; Manufacturer: National Semiconductor; CompType: ADC IC; PackageTopMarking: NSUZXYTT*ADC*0831CCN; PowerWise: N; Published: 4-Dec-2008; DatasheetVersion: Sep-1992; PackageVersion: revG, May-2006; PackageReference: N08E; Publisher: Altium Limited; PackageDescription: MDIP, .365 x .250 x .130in, 8 Lead, .100in Pitch; RoHS: O; PinCount: 8; DigiKeyPartNumber: ADC0831CCN-ND; Code_JEDEC: MS-001-BA; ComponentLink1Description: ADC0831 Datasheet; ComponentLink1URL: http://www.national.com/ds/AD/ADC0831.pdf; ComponentLink2Description: ADC0831 Web Page; ComponentLink2URL: http://www.national.com/pf/AD/ADC0831.html; ComponentLink3Description: N08E Package Page; ComponentLink3URL: http://www.national.com/packaging/folders/n08e.html
footprint N08E (DIP, 8-Leads, Row Spacing 7.62mm, Pitch 2.54mm, Body 9.91x6.35mm)
pins: 1 ~{CS} (in), 2 VIN(+) (in), 3 VIN(-) (in), 4 GND (power), 5 VREF (power), 6 DO (out), 7 CLK (in), 8 VCC (power)

## ADC0831CCWM
designator U?
8-Bit Serial I/O A/D Converter with Multiplexer Option; PartNumber: ADC0831CCWM; Manufacturer: National Semiconductor; CompType: ADC IC; PackageTopMarking: NSUZXYTT*ADC0831*CCWM; PowerWise: N; Published: 4-Dec-2008; DatasheetVersion: Sep-1992; PackageVersion: revD, Feb-1987; PackageReference: M14B; Publisher: Altium Limited; PackageDescription: Molded Package, S.O., .300in Wide, 14 Lead; RoHS: Y; PinCount: 14; DigiKeyPartNumber: ADC0831CCWM-ND; Code_JEDEC: MS-013-AF; Code_IPC: SOIC127P1030-14; ComponentLink1Description: ADC0831 Datasheet; ComponentLink1URL: http://www.national.com/ds/AD/ADC0831.pdf; ComponentLink2Description: ADC0831 Web Page; ComponentLink2URL: http://www.national.com/pf/AD/ADC0831.html; ComponentLink3Description: M14B Package Page; ComponentLink3URL: http://www.national.com/packaging/folders/m14b.html
footprint M14B_N (SOIC, 14-Leads, Body 9x7.5mm, Pitch 1.27mm, IPC Medium Density)
footprint M14B_L (SOIC, 14-Leads, Body 9x7.5mm, Pitch 1.27mm, IPC High Density)
footprint M14B_M (SOIC, 14-Leads, Body 9x7.5mm, Pitch 1.27mm, IPC Low Density)
pins: 1 ~{CS} (in), 2 NC, 3 VIN(+) (in), 4 NC, 5 VIN(-) (in), 6 NC, 7 GND (power), 8 VREF (power), 9 NC, 10 DO (out), 11 NC, 12 CLK (in), 13 NC, 14 VCC (power)

## ADC0832CCN
designator U?
8-Bit Serial I/O A/D Converter with Multiplexer Option; PartNumber: ADC0832CCN; Manufacturer: National Semiconductor; CompType: ADC IC; PackageTopMarking: NSUZXYTT*ADC*0832CCN; PowerWise: N; Published: 4-Dec-2008; DatasheetVersion: Sep-1992; PackageVersion: revG, May-2006; PackageReference: N08E; Publisher: Altium Limited; PackageDescription: MDIP, .365 x .250 x .130in, 8 Lead, .100in Pitch; RoHS: O; PinCount: 8; DigiKeyPartNumber: ADC0832CCN-ND; Code_JEDEC: MS-001-BA; ComponentLink1Description: ADC0832 Datasheet; ComponentLink1URL: http://www.national.com/ds/AD/ADC0832.pdf; ComponentLink2Description: ADC0832 Web Page; ComponentLink2URL: http://www.national.com/pf/AD/ADC0832.html; ComponentLink3Description: N08E Package Page; ComponentLink3URL: http://www.national.com/packaging/folders/n08e.html
footprint N08E (DIP, 8-Leads, Row Spacing 7.62mm, Pitch 2.54mm, Body 9.91x6.35mm)
pins: 1 ~{CS} (in), 2 CH0 (in), 3 CH1 (in), 4 GND (power), 5 DI (in), 6 DO (hiz), 7 CLK (in), 8 VCC (power)

## ADC0832CCWM
designator U?
8-Bit Serial I/O A/D Converter with Multiplexer Option; PartNumber: ADC0832CCWM; Manufacturer: National Semiconductor; CompType: ADC IC; PackageTopMarking: NSUZXYTT*ADC0832*CCWM; PowerWise: N; Published: 4-Dec-2008; DatasheetVersion: Aug-1994; PackageVersion: revD, Feb-1987; PackageReference: M14B; Publisher: Altium Limited; PackageDescription: Molded Package, S.O., .300in Wide, 14 Lead; RoHS: Y; PinCount: 14; DigiKeyPartNumber: ADC0832CCWM-ND; Code_JEDEC: MS-013-AF; Code_IPC: SOIC127P1030-14; ComponentLink1Description: ADC0832 Datasheet; ComponentLink1URL: http://www.national.com/ds/AD/ADC0832.pdf; ComponentLink2Description: ADC0832 Web Page; ComponentLink2URL: http://www.national.com/pf/AD/ADC0832.html; ComponentLink3Description: M14B Package Page; ComponentLink3URL: http://www.national.com/packaging/folders/m14b.html
footprint M14B_N (SOIC, 14-Leads, Body 9x7.5mm, Pitch 1.27mm, IPC Medium Density)
footprint M14B_L (SOIC, 14-Leads, Body 9x7.5mm, Pitch 1.27mm, IPC High Density)
footprint M14B_M (SOIC, 14-Leads, Body 9x7.5mm, Pitch 1.27mm, IPC Low Density)
pins: 1 ~{CS} (in), 2 NC, 3 CH0 (in), 4 NC, 5 CH1 (in), 6 NC, 7 GND (power), 8 DI (in), 9 NC, 10 DO (out), 11 NC, 12 CLK (in), 13 NC, 14 VCC (power)

## ADC0834CCN
designator U?
8-Bit Serial I/O A/D Converter with Multiplexer Option; PartNumber: ADC0834CCN; Manufacturer: National Semiconductor; CompType: ADC IC; PackageTopMarking: NSUZXYYTTE#*ADC0834CCN; PowerWise: N; Published: 4-Dec-2008; DatasheetVersion: Sep-1992; PackageVersion: revG, May-2006; PackageReference: N14A; Publisher: Altium Limited; PackageDescription: MDIP, .750 x .250 x.130in, 14 Lead, .100in Pitch; RoHS: O; PinCount: 14; DigiKeyPartNumber: ADC0834CCN-ND; Code_JEDEC: MS-001-AA; ComponentLink1Description: ADC0834 Datasheet; ComponentLink1URL: http://www.national.com/ds/AD/ADC0834.pdf; ComponentLink2Description: ADC0834 Web Page; ComponentLink2URL: http://www.national.com/pf/AD/ADC0834.html; ComponentLink3Description: N14A Package Page; ComponentLink3URL: http://www.national.com/packaging/folders/n14a.html
footprint N14A (DIP, 14-Leads, Row Spacing 7.62mm, Pitch 2.54mm, Body 19.56x6.35mm)
pins: 1 V+ (power), 2 ~{CS} (in), 3 CH0 (in), 4 CH1 (in), 5 CH2 (in), 6 CH3 (in), 7 DGND (power), 8 AGND (power), 9 VREF (power), 10 DO (out), 11 SARS (out), 12 CLK (in), 13 DI (in), 14 VCC (power)

## ADC0834CCWM
designator U?
8-Bit Serial I/O A/D Converter with Multiplexer Option; PartNumber: ADC0834CCWM; Manufacturer: National Semiconductor; CompType: ADC IC; PackageTopMarking: NSUZXYTT*ADC0834*CCWM; PowerWise: N; Published: 4-Dec-2008; DatasheetVersion: Sep-1992; PackageVersion: revD, Feb-1987; PackageReference: M14B; Publisher: Altium Limited; PackageDescription: Molded Package, S.O., .300in Wide, 14 Lead; RoHS: O; PinCount: 14; DigiKeyPartNumber: ADC0834CCWM-ND; Code_JEDEC: MS-013-AF; Code_IPC: SOIC127P1030-14; ComponentLink1Description: ADC0834 Datasheet; ComponentLink1URL: http://www.national.com/ds/AD/ADC0834.pdf; ComponentLink2Description: ADC0834 Web Page; ComponentLink2URL: http://www.national.com/pf/AD/ADC0834.html; ComponentLink3Description: M14B Package Page; ComponentLink3URL: http://www.national.com/packaging/folders/m14b.html
footprint M14B_N (SOIC, 14-Leads, Body 9x7.5mm, Pitch 1.27mm, IPC Medium Density)
footprint M14B_L (SOIC, 14-Leads, Body 9x7.5mm, Pitch 1.27mm, IPC High Density)
footprint M14B_M (SOIC, 14-Leads, Body 9x7.5mm, Pitch 1.27mm, IPC Low Density)
pins: 1 V+ (power), 2 ~{CS} (in), 3 CH0 (in), 4 CH1 (in), 5 CH2 (in), 6 CH3 (in), 7 DGND (power), 8 AGND (power), 9 VREF (power), 10 DO (out), 11 SARS (out), 12 CLK (in), 13 DI (in), 14 VCC (power)

## ADC0838CCN
designator U?
8-Bit Serial I/O A/D Converter with Multiplexer Option; PartNumber: ADC0838CCN; Manufacturer: National Semiconductor; CompType: ADC IC; PackageTopMarking: NSUZXYYTTE#*ADC0838CCN; PowerWise: N; Published: 4-Dec-2008; DatasheetVersion: Sep-1992; PackageVersion: revG, Nov-1984; PackageReference: N20A; Publisher: Altium Limited; PackageDescription: Molded Dip (N) 20 Lead; RoHS: O; PinCount: 20; DigiKeyPartNumber: ADC0838CCN-ND; Code_JEDEC: MS-001-AD; ComponentLink1Description: ADC0838 Datasheet; ComponentLink1URL: http://www.national.com/ds/AD/ADC0838.pdf; ComponentLink2Description: ADC0838 Web Page; ComponentLink2URL: http://www.national.com/pf/AD/ADC0838.html; ComponentLink3Description: N20A Package Page; ComponentLink3URL: http://www.national.com/packaging/folders/n20a.html
footprint N20A (DIP, 20-Leads, Row Spacing 7.62mm, Pitch 2.54mm, Body 26.07x6.6mm)
pins: 1 CH0 (in), 2 CH1 (in), 3 CH2 (in), 4 CH3 (in), 5 CH4 (in), 6 CH5 (in), 7 CH6 (in), 8 CH7 (in), 9 COM (in), 10 DGND (power), 11 AGND (power), 12 VREF (power), 13 ~{SE} (in), 14 DO (out), 15 SARS (out), 16 CLK (in), 17 DI (in), 18 ~{CS} (in), 19 V+ (power), 20 VCC (power)

## ADC0838CCWM
designator U?
8-Bit Serial I/O A/D Converter with Multiplexer Option; PartNumber: ADC0838CCWM; Manufacturer: National Semiconductor; CompType: ADC IC; PackageTopMarking: NSUZXYTT*ADC0838*CCWM; PowerWise: N; Published: 4-Dec-2008; DatasheetVersion: Sep-1992; PackageVersion: revG, Jan-1996; PackageReference: M20B; Publisher: Altium Limited; PackageDescription: Molded Package, S0, .300in Wide, 20 Lead; RoHS: O; PinCount: 20; DigiKeyPartNumber: ADC0838CCWM-ND; Code_JEDEC: MS-013-AC; Code_IPC: SOIC127P1030-20; ComponentLink1Description: ADC0838 Datasheet; ComponentLink1URL: http://www.national.com/ds/AD/ADC0838.pdf; ComponentLink2Description: ADC0838 Web Page; ComponentLink2URL: http://www.national.com/pf/AD/ADC0838.html; ComponentLink3Description: M20B Package Page; ComponentLink3URL: http://www.national.com/packaging/folders/m20b.html
footprint M20B_N (SOIC, 20-Leads, Body 12.8x7.5mm, Pitch 1.27mm, IPC Medium Density)
footprint M20B_L (SOIC, 20-Leads, Body 12.8x7.5mm, Pitch 1.27mm, IPC High Density)
footprint M20B_M (SOIC, 20-Leads, Body 12.8x7.5mm, Pitch 1.27mm, IPC Low Density)
pins: 1 CH0 (in), 2 CH1 (in), 3 CH2 (in), 4 CH3 (in), 5 CH4 (in), 6 CH5 (in), 7 CH6 (in), 8 CH7 (in), 9 COM (in), 10 DGND (power), 11 AGND (power), 12 VREF (power), 13 ~{SE} (in), 14 DO (out), 15 SARS (out), 16 CLK (in), 17 DI (in), 18 ~{CS} (in), 19 V+ (power), 20 VCC (power)

## ADC0838CIWM
designator U?
8-Bit Serial I/O A/D Converter with Multiplexer Option; PartNumber: ADC0838CIWM; Manufacturer: National Semiconductor; CompType: ADC IC; PackageTopMarking: NSUZXYTT*ADC0838*CIWM; PowerWise: N; Published: 4-Dec-2008; DatasheetVersion: Jan-1994; PackageVersion: revG, Jan-1996; PackageReference: M20B; Publisher: Altium Limited; PackageDescription: Molded Package, S0, .300in Wide, 20 Lead; RoHS: O; PinCount: 20; DigiKeyPartNumber: ADC0838CIWM-ND; Code_JEDEC: MS-013-AC; Code_IPC: SOIC127P1030-20; ComponentLink1Description: ADC0838 Datasheet; ComponentLink1URL: http://www.national.com/ds/AD/ADC0838.pdf; ComponentLink2Description: ADC0838 Web Page; ComponentLink2URL: http://www.national.com/pf/AD/ADC0838.html; ComponentLink3Description: M20B Package Page; ComponentLink3URL: http://www.national.com/packaging/folders/m20b.html
footprint M20B_N (SOIC, 20-Leads, Body 12.8x7.5mm, Pitch 1.27mm, IPC Medium Density)
footprint M20B_L (SOIC, 20-Leads, Body 12.8x7.5mm, Pitch 1.27mm, IPC High Density)
footprint M20B_M (SOIC, 20-Leads, Body 12.8x7.5mm, Pitch 1.27mm, IPC Low Density)
pins: 1 CH0 (in), 2 CH1 (in), 3 CH2 (in), 4 CH3 (in), 5 CH4 (in), 6 CH5 (in), 7 CH6 (in), 8 CH7 (in), 9 COM (in), 10 DGND (power), 11 AGND (power), 12 VREF (power), 13 ~{SE} (in), 14 DO (out), 15 SARS (out), 16 CLK (in), 17 DI (in), 18 ~{CS} (in), 19 V+ (power), 20 VCC (power)

## ADC0844CCN
designator U?
8-Bit Microprocessor Compatible A/D Converter with Multiplexer Option; PartNumber: ADC0844CCN; Manufacturer: National Semiconductor; CompType: ADC IC; PackageTopMarking: NSUZXYYTTE#*ADC0844CCN; PowerWise: N; Published: 4-Dec-2008; DatasheetVersion: Mar-2006; PackageVersion: revG, Nov-1984; PackageReference: N20A; Publisher: Altium Limited; PackageDescription: Molded Dip (N) 20 Lead; RoHS: O; PinCount: 20; DigiKeyPartNumber: ADC0844CCN-ND; Code_JEDEC: MS-001-AD; ComponentLink1Description: ADC0844 Datasheet; ComponentLink1URL: http://www.national.com/ds/AD/ADC0844.pdf; ComponentLink2Description: ADC0844 Web Page; ComponentLink2URL: http://www.national.com/mpf/DC/ADC0844.html; ComponentLink3Description: N20A Package Page; ComponentLink3URL: http://www.national.com/packaging/folders/n20a.html
footprint N20A (DIP, 20-Leads, Row Spacing 7.62mm, Pitch 2.54mm, Body 26.07x6.6mm)
pins: 1 ~{RD} (in), 2 ~{CS} (in), 3 CH1 (in), 4 CH2 (in), 5 CH3 (in), 6 CH4 (in), 7 AGND (power), 8 VREF (power), 9 DB7 (out), 10 DGND (power), 11 DB6 (out), 12 DB5 (out), 13 DB4 (out), 14 DB3/MA3 (out), 15 DB2/MA2 (out), 16 DB1/MA1 (out), 17 DB0/MA0 (out), 18 ~{INTR} (out), 19 ~{WR} (in), 20 VCC (power)

## ADC0848BCN
designator U?
8-Bit Microprocessor Compatible A/D Converter with Multiplexer Option; PartNumber: ADC0848BCN; Manufacturer: National Semiconductor; CompType: ADC IC; PackageTopMarking: NSUZXYYTTE#*ADC0848*BCN; Published: 4-Dec-2008; LatestRevisionDate: 13-Jan-2009; LatestRevisionNote: Package N24D replaced N24C.; DatasheetVersion: Dec-2008; PackageVersion: revB, Feb-1989; PackageReference: N24D; Publisher: Altium Limited; PackageDescription: Molded Dip (N), 24 Lead, .300in, Subcontractor Package; RoHS: Y; PinCount: 24; DigiKeyPartNumber: ADC0848BCN-ND; Code_JEDEC: MS-001-AF; ComponentLink1Description: ADC0844 Datasheet; ComponentLink1URL: http://www.national.com/ds/AD/ADC0844.pdf; ComponentLink2Description: ADC0848 Web Page; ComponentLink2URL: http://www.national.com/mpf/DC/ADC0848.html; ComponentLink3Description: N24D Package Page; ComponentLink3URL: http://www.national.com/packaging/folders/n24d.html
footprint N24D (DIP, 24-Leads, Row Spacing 7.62mm, Pitch 2.54mm, Body 32x6.6mm)
pins: 1 ~{RD} (in), 2 CH1 (in), 3 CH2 (in), 4 CH3 (in), 5 CH4 (in), 6 CH5 (in), 7 CH6 (in), 8 CH7 (in), 9 CH8 (in), 10 AGND (power), 11 VREF (power), 12 DGND (power), 13 DB7 (out), 14 DB6 (out), 15 DB5 (out), 16 DB4/MA4 (out), 17 DB3/MA3 (out), 18 DB2/MA2 (out), 19 DB1/MA1 (out), 20 DB0/MA0 (out), 21 ~{INTR} (out), 22 ~{WR} (in), 23 ~{CS} (in), 24 VCC (power)

## ADC0848BCV
designator U?
8-Bit Microprocessor Compatible A/D Converter with Multiplexer Option; PartNumber: ADC0848BCV; Manufacturer: National Semiconductor; CompType: ADC IC; PackageTopMarking: NSUZXYYTT*ADC0848*BCV; PowerWise: N; Published: 4-Dec-2008; DatasheetVersion: Dec-2008; PackageVersion: revK, Dec-1993; PackageReference: V28A; Publisher: Altium Limited; PackageDescription: Plastic Chip Carrier, Sq., .050in Pitch, 28 Lead; RoHS: O; PinCount: 28; DigiKeyPartNumber: ADC0848BCV-ND; Code_IPC: PLCC-28; ComponentLink1Description: ADC0844 Datasheet; ComponentLink1URL: http://www.national.com/ds/AD/ADC0844.pdf; ComponentLink2Description: ADC0848 Web Page; ComponentLink2URL: http://www.national.com/mpf/DC/ADC0848.html; ComponentLink3Description: V28A Package Page; ComponentLink3URL: http://www.national.com/packaging/folders/v28a.html
footprint V28A_N (Leaded Chip Carrier, 28-Leads, Body 11.5x11.5mm, Pitch 1.27mm, IPC Medium Density)
footprint V28A_L (Leaded Chip Carrier, 28-Leads, Body 11.5x11.5mm, Pitch 1.27mm, IPC High Density)
footprint V28A_M (Leaded Chip Carrier, 28-Leads, Body 11.5x11.5mm, Pitch 1.27mm, IPC Low Density)
pins: 1 NC, 2 VCC (power), 3 ~{RD} (in), 4 CH1 (in), 5 CH2 (in), 6 CH3 (in), 7 CH4 (in), 8 NC, 9 CH5 (in), 10 CH6 (in), 11 CH7 (in), 12 CH8 (in), 13 AGND (power), 14 VREF (power), 15 NC, 16 DGND (power), 17 DB7 (out), 18 DB6 (out), 19 DB5 (out), 20 DB4/MA4 (out), 21 DB3/MA3 (out), 22 NC, 23 DB2/MA2 (out), 24 DB1/MA1 (out), 25 DB0/MA0 (out), 26 ~{INTR} (out), 27 ~{WR} (in), 28 ~{CS} (in)

## ADC0848CCN
designator U?
8-Bit Microprocessor Compatible A/D Converter with Multiplexer Option; PartNumber: ADC0848CCN; Manufacturer: National Semiconductor; CompType: ADC IC; PackageTopMarking: NSUZXYYTTE#*ADC0848CCN; PowerWise: N; Published: 4-Dec-2008; LatestRevisionDate: 13-Jan-2009; LatestRevisionNote: Package N24D replaced N24C.; DatasheetVersion: Dec-2008; PackageVersion: revB, Feb-1989; PackageReference: N24D; Publisher: Altium Limited; PackageDescription: Molded Dip (N), 24 Lead, .300in, Subcontractor Package; RoHS: O; PinCount: 24; DigiKeyPartNumber: ADC0848CCN-ND; Code_JEDEC: MS-001-AF; ComponentLink1Description: ADC0844 Datasheet; ComponentLink1URL: http://www.national.com/ds/AD/ADC0844.pdf; ComponentLink2Description: ADC0848 Web Page; ComponentLink2URL: http://www.national.com/mpf/DC/ADC0848.html; ComponentLink3Description: N24D Package Page; ComponentLink3URL: http://www.national.com/packaging/folders/n24d.html
footprint N24D (DIP, 24-Leads, Row Spacing 7.62mm, Pitch 2.54mm, Body 32x6.6mm)
pins: 1 ~{RD} (in), 2 CH1 (in), 3 CH2 (in), 4 CH3 (in), 5 CH4 (in), 6 CH5 (in), 7 CH6 (in), 8 CH7 (in), 9 CH8 (in), 10 AGND (power), 11 VREF (power), 12 DGND (power), 13 DB7 (out), 14 DB6 (out), 15 DB5 (out), 16 DB4/MA4 (out), 17 DB3/MA3 (out), 18 DB2/MA2 (out), 19 DB1/MA1 (out), 20 DB0/MA0 (out), 21 ~{INTR} (out), 22 ~{WR} (in), 23 ~{CS} (in), 24 VCC (power)